# Altium integrated library RotatoryEncoders.IntLib: 1 symbol
Pins are listed as number, name and electrical type; pins without a type are passive.

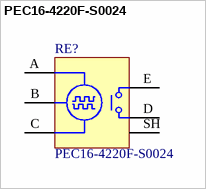
[diagram p0: symbol PEC16-4220F-S0024]

## PEC16-4220F-S0024
designator RE?
Mechanical Encoder Rotary Incremental Flat 2.83oz.in Straight Quadrature Digital Square Wave 24PPR Through Hole PC Pin; Manufacturer: Bourns; Number of Channels: 2; Output Type: Quadrature,Incremental; Built in Switch: Yes; Pulses per Revolution: 24; Max Supply Voltage (DC): 5V; Supplier 1: Digi-Key; Manufacturer Part Number: PEC16-4220F-S0024; RoHS: Yes; Category: Accessories; Stock 1: 1389; Pricing 1: 1=1,57000, 10=1,45800, 25=1,37720, 50=1,21500, 100=0,99900, 250=0,97200, 500=0,91800, 1000=0,86400, 5000=0,75600 (USD); Mount: Through Hole,Panel,PCB; Contact Plating: Tin; Min Operating Temperature: -30°C; Max Operating Temperature: 70°C; Type: Mechanical; Package Quantity: 50; Packaging: Bulk; Encoder Type: Mechanical; Detent: Yes; Termination: PC Pin; Orientation: Vertical; Length: 28mm; Height: 17.3mm; Width: 16mm; REACH SVHC: Unknown; ComponentLink1URL: https://datasheet.ciiva.com/4545/pec16-245034-4545818.pdf?src-supplier=Mouser; ComponentLink1Description: https://datasheet.ciiva.com/4545/pec16-245034-4545818.pdf?src-supplier=Mouser; ComponentLink2URL: https://datasheet.ciiva.com/30116/750pec16-30116314.pdf?src-supplier=Onlinecomponents.com; ComponentLink2Description: https://datasheet.ciiva.com/30116/750pec16-30116314.pdf?src-supplier=Onlinecomponents.com; ComponentLink3URL: https://datasheet.ciiva.com/6481/pec16-6481798.pdf?src-supplier=Digi-Key; ComponentLink3Description: https://datasheet.ciiva.com/6481/pec16-6481798.pdf?src-supplier=Digi-Key; Value: PEC16-4220F-S0024; Supplier Part Number 1: PEC16-4220F-S0024-ND
footprint PEC16-4220F-S0024
pins: A, B, C, D, E, SH